# EAGLE library part PCA9532 (library FaBo-LED)
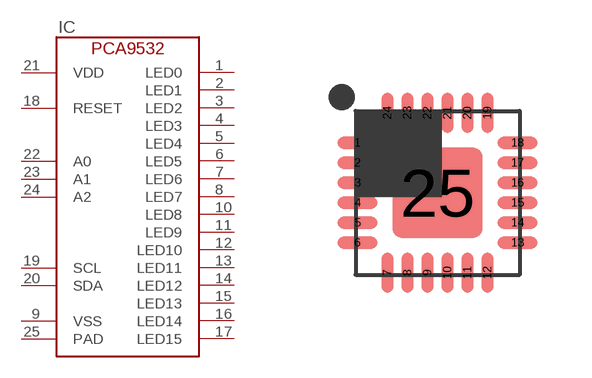
[diagram p1: symbol with the pads of HVQFN24; footprint HVQFN24]

Designator prefix IC

## PCA9532BS  [HVQFN24]
1  LED0
2  LED1
3  LED2
4  LED3
5  LED4
6  LED5
7  LED6
8  LED7
9  VSS
10  LED8
11  LED9
12  LED10
13  LED11
14  LED12
15  LED13
16  LED14
17  LED15
18  RESET
19  SCL
20  SDA
21  VDD
22  A0
23  A1
24  A2
25  PAD

## Footprint HVQFN24 (pad centres in mm)
smd 1 x 0.3: 1 -2,1.25; 2 -2,0.75; 3 -2,0.25; 4 -2,-0.25; 5 -2,-0.75; 6 -2,-1.25; 13 2,-1.25; 14 2,-0.75; 15 2,-0.25; 16 2,0.25; 17 2,0.75; 18 2,1.25
smd 0.3 x 1: 7 -1.25,-2; 8 -0.75,-2; 9 -0.25,-2; 10 0.25,-2; 11 0.75,-2; 12 1.25,-2; 19 1.25,2; 20 0.75,2; 21 0.25,2; 22 -0.25,2; 23 -0.75,2; 24 -1.25,2
smd 2.25 x 2.25: 25 0,0